# Altium integrated library Holtek Semiconductor Sound Effects.IntLib: 2 symbols
Pins are listed as number, name and electrical type; pins without a type are passive.

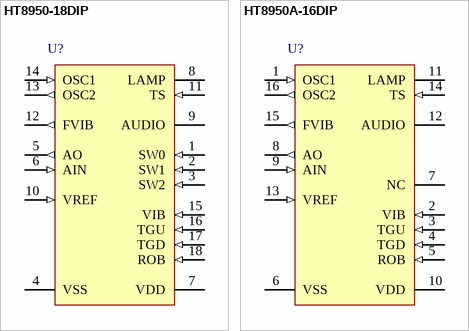
[diagram p0: symbols HT8950-18DIP to HT8950A-16DIP]

## HT8950-18DIP
designator U?
Voice Modulator, 18-Pin DIP; DatasheetVersion: Rev1.10, Nov-2006; PackageVersion: 25/05/2010; PackageReference: 18DIP; PackageDescription: 18-Pin, Dual In-line Package, 300mil Width, Pitch 2.54 mm, Full Lead; Code_JEDEC: MS-001D; ComponentLink1Description: Manufacturer URL; ComponentLink1URL: http://www.holtek.com/; ComponentLink2Description: Datasheet; ComponentLink2URL: http://www.holtek.com/pdf/consumer/8950v110.pdf; ComponentLink3Description: Package Specification; ComponentLink3URL: http://www.holtek.com/english/literature/package.pdf
footprint 18DIP (DIP, 18-Leads, Row Spacing 7.62mm, Pitch 2.54mm, Body 22.9x6.6mm)
pins: 1 SW0 (in), 2 SW1 (in), 3 SW2 (in), 4 VSS (power), 5 AO (out), 6 AIN (in), 7 VDD (power), 8 LAMP (oc), 9 AUDIO (oe), 10 VREF (in), 11 TS (in), 12 FVIB (out), 13 OSC2 (out), 14 OSC1 (in), 15 VIB (in), 16 TGU (in), 17 TGD (in), 18 ROB (in)

## HT8950A-16DIP
designator U?
Voice Modulator, 16-Pin DIP; DatasheetVersion: Rev1.10, Nov-2006; PackageVersion: 25/05/2010; PackageReference: 16DIP; PackageDescription: 16-Pin, Dual In-line Package, 300mil Width, Pitch 2.54 mm, Full Lead; Code_JEDEC: MS-001D; ComponentLink1Description: Manufacturer URL; ComponentLink1URL: http://www.holtek.com/; ComponentLink2Description: Datasheet; ComponentLink2URL: http://www.holtek.com/pdf/consumer/8950v110.pdf; ComponentLink3Description: Package Specification; ComponentLink3URL: http://www.holtek.com/english/literature/package.pdf
footprint 16DIP (DIP, 16-Leads, Row Spacing 7.62mm, Pitch 2.54mm, Body 21.1x6.6mm)
pins: 1 OSC1 (in), 2 VIB (in), 3 TGU (in), 4 TGD (in), 5 ROB (in), 6 VSS (power), 7 NC, 8 AO (out), 9 AIN (in), 10 VDD (power), 11 LAMP (oc), 12 AUDIO (oe), 13 VREF (in), 14 TS (in), 15 FVIB (out), 16 OSC2 (out)